# Altium footprint library pedals-tubes.PCBLIB: 16 footprints
Each footprint in its own frame and in the unit in brackets; x right, y up, seen from the top. Pads: shape width x height; smd on the part's side, far side on the other; paste and mask are expansions set on the pad; w line width, h text height; cw(c..) or ccw(c..) is an arc to the next point about the centre after c.
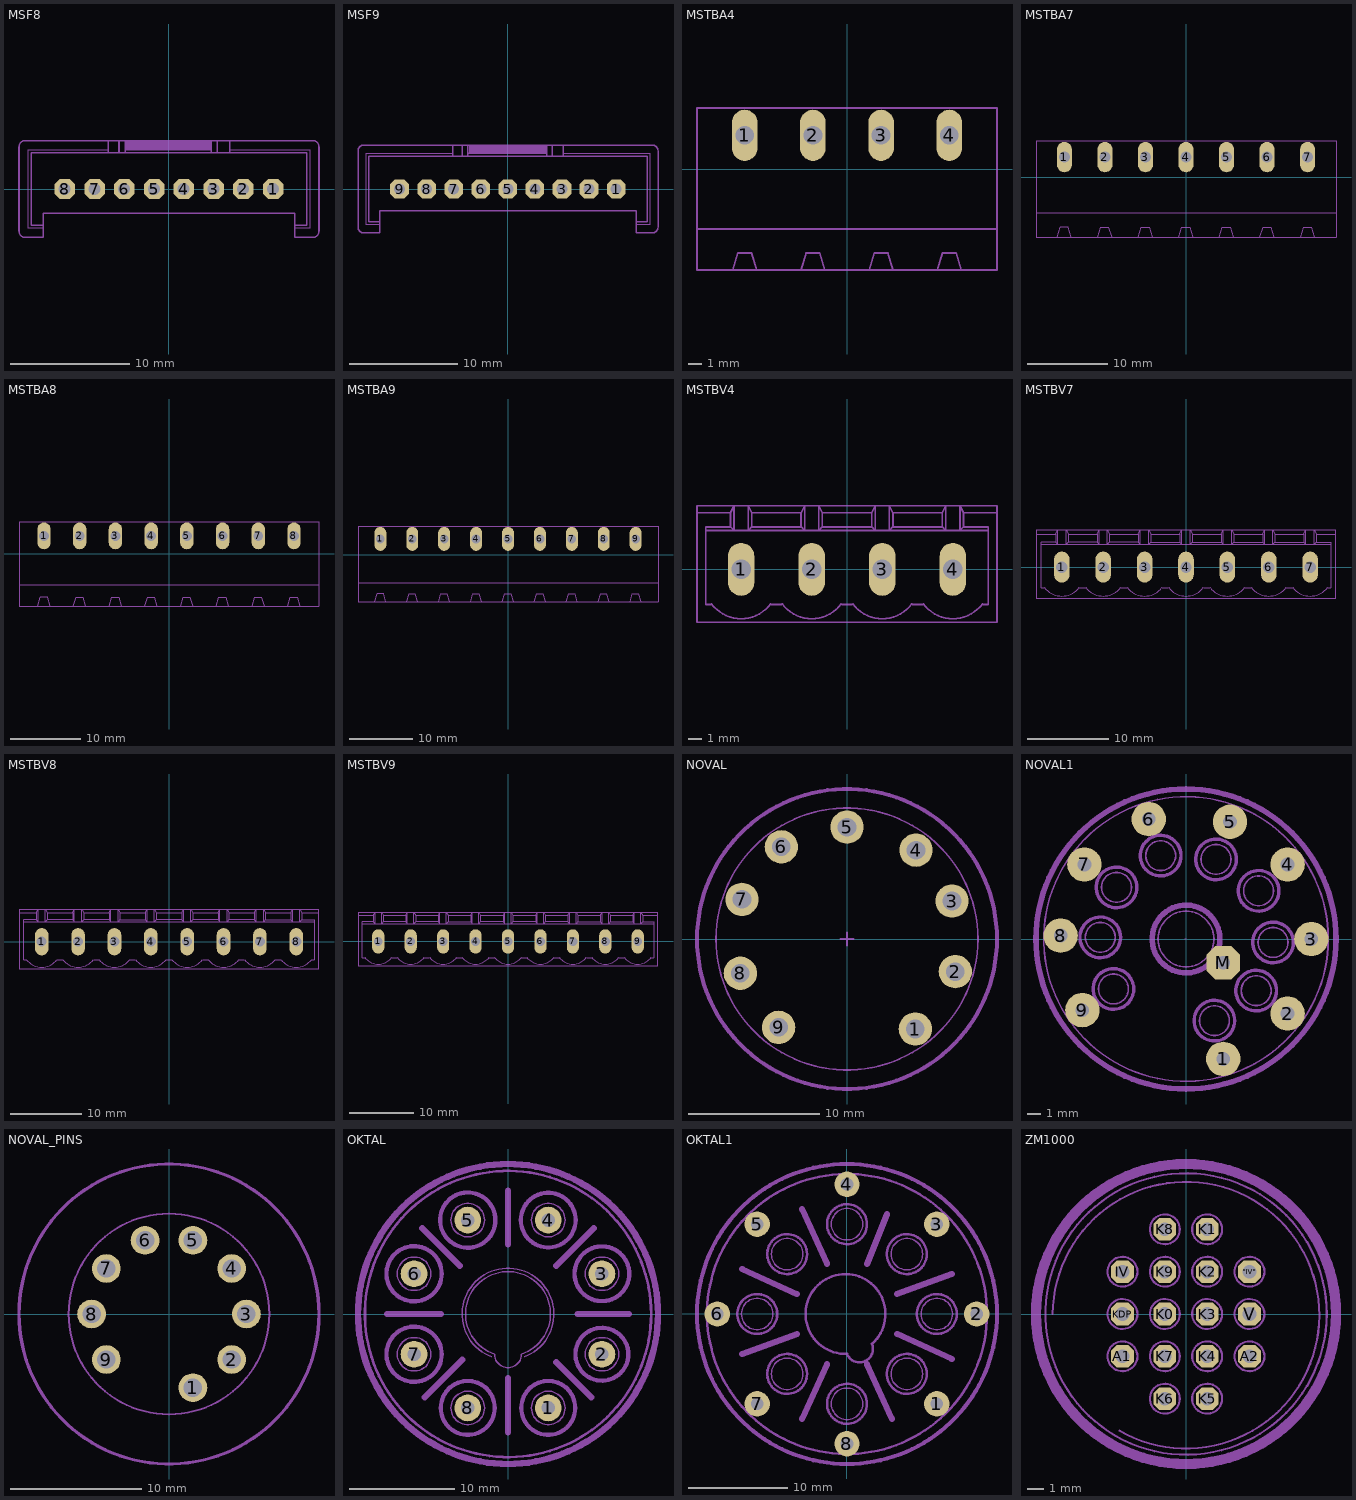
[diagram p0: the footprints below, top view; thin cyan lines are the x and y axes]

## MSF8 [mil]
pads (8):
  oct 67.78x67.78 hole 40: 1(345,0) 2(246,0) 3(148,0) 4(49,0) 5(-49,0) 6(-148,0) 7(-246,0) 8(-345,0)
Mechanical 2:
  rectangle: -142,130 138,160
  lines w0: -416,-130 -466,-130 -466,130 -200,130 ; 201,130 467,130 467,-130 417,-130
  lines w5: -416,-120 -456,-120 -456,120 -200,120 ; -416,-120 -416,-130 -416,-160 -476,-160 cw(c-476,-140) -496,-140 -496,140 cw(c-476,140) -476,160 -200,160 ; -416,-120 -416,-80 417,-80 417,-120 ; -200,120 -165,120 ; -200,120 -200,130 -200,160 ; -200,160 -165,160 ; -165,120 -165,160 ; -165,120 -145,120 ; -165,160 -145,160 ; -145,120 -145,130 ; -145,120 141,120 ; -145,130 -145,160 ; -145,130 141,130 ; -145,160 141,160 ; 141,120 161,120 ; 141,120 141,130 ; 141,130 141,160 ; 141,160 161,160 ; 161,120 161,160 ; 161,120 201,120 ; 161,160 201,160 ; 201,120 457,120 457,-120 417,-120 ; 201,120 201,130 201,160 ; 201,160 477,160 cw(c477,140) 497,140 497,-140 cw(c477,-140) 477,-160 417,-160 417,-130 417,-120
Mechanical 18:
  lines w5: -360,-15 -330,-15 ; -360,-15 -360,15 ; -360,-15 -330,15 ; -360,15 -330,15 ; -360,15 -330,-15 ; -330,-15 -330,15 ; -261,-15 -261,15 ; -261,-15 -231,15 ; -261,-15 -231,-15 ; -261,15 -231,15 ; -261,15 -231,-15 ; -231,-15 -231,15 ; -163,-15 -133,-15 ; -163,-15 -163,15 ; -163,-15 -133,15 ; -163,15 -133,15 ; -163,15 -133,-15 ; -133,-15 -133,15 ; -64,-15 -34,-15 ; -64,-15 -64,15 ; -64,-15 -34,15 ; -64,15 -34,15 ; -64,15 -34,-15 ; -34,-15 -34,15 ; 34,-15 64,15 ; 34,-15 34,15 ; 34,-15 64,-15 ; 34,15 64,-15 ; 34,15 64,15 ; 64,-15 64,15 ; 133,-15 163,15 ; 133,-15 163,-15 ; 133,-15 133,15 ; 133,15 163,-15 ; 133,15 163,15 ; 163,-15 163,15 ; 231,-15 231,15 ; 231,-15 261,-15 ; 231,-15 261,15 ; 231,15 261,15 ; 231,15 261,-15 ; 261,-15 261,15 ; 330,-15 360,-15 ; 330,-15 330,15 ; 330,-15 360,15 ; 330,15 360,15 ; 330,15 360,-15 ; 360,-15 360,15

## MSF9 [mil]
pads (9):
  oct 67.78x67.78 hole 40: 1(394,0) 2(295,0) 3(197,0) 4(98,0) 5(0,0) 6(-98,0) 7(-197,0) 8(-295,0) 9(-394,0)
Mechanical 2:
  rectangle: -142,130 138,160
  lines w0: -465,-130 -515,-130 -515,130 -200,130 ; 201,130 516,130 516,-130 466,-130
  lines w5: -465,-120 -505,-120 -505,120 -200,120 ; -465,-120 -465,-130 -465,-160 -525,-160 cw(c-525,-140) -545,-140 -545,140 cw(c-525,140) -525,160 -200,160 ; -465,-120 -465,-80 466,-80 466,-120 ; -200,120 -165,120 ; -200,120 -200,130 -200,160 ; -200,160 -165,160 ; -165,120 -165,160 ; -165,120 -145,120 ; -165,160 -145,160 ; -145,120 -145,130 ; -145,120 141,120 ; -145,130 -145,160 ; -145,130 141,130 ; -145,160 141,160 ; 141,120 161,120 ; 141,120 141,130 ; 141,130 141,160 ; 141,160 161,160 ; 161,120 161,160 ; 161,120 201,120 ; 161,160 201,160 ; 201,120 506,120 506,-120 466,-120 ; 201,120 201,130 201,160 ; 201,160 526,160 cw(c526,140) 546,140 546,-140 cw(c526,-140) 526,-160 466,-160 466,-130 466,-120
Mechanical 18:
  lines w5: -409,-15 -379,-15 ; -409,-15 -409,15 ; -409,-15 -379,15 ; -409,15 -379,15 ; -409,15 -379,-15 ; -379,-15 -379,15 ; -310,-15 -310,15 ; -310,-15 -280,15 ; -310,-15 -280,-15 ; -310,15 -280,15 ; -310,15 -280,-15 ; -280,-15 -280,15 ; -212,-15 -182,-15 ; -212,-15 -212,15 ; -212,-15 -182,15 ; -212,15 -182,15 ; -212,15 -182,-15 ; -182,-15 -182,15 ; -113,-15 -83,-15 ; -113,-15 -113,15 ; -113,-15 -83,15 ; -113,15 -83,15 ; -113,15 -83,-15 ; -83,-15 -83,15 ; -15,-15 15,15 ; -15,-15 -15,15 ; -15,-15 15,-15 ; -15,15 15,-15 ; -15,15 15,15 ; 15,-15 15,15 ; 83,-15 113,15 ; 83,-15 113,-15 ; 83,-15 83,15 ; 83,15 113,-15 ; 83,15 113,15 ; 113,-15 113,15 ; 182,-15 182,15 ; 182,-15 212,-15 ; 182,-15 212,15 ; 182,15 212,15 ; 182,15 212,-15 ; 212,-15 212,15 ; 280,-15 310,-15 ; 280,-15 280,15 ; 280,-15 310,15 ; 280,15 310,15 ; 280,15 310,-15 ; 310,-15 310,15 ; 379,-15 379,15 ; 379,-15 409,15 ; 379,-15 409,-15 ; 379,15 409,15 ; 379,15 409,-15 ; 409,-15 409,15

## MSTBA4 [mil]
pads (4):
  oval 75x150 hole 55: 1(-300,100) 2(-100,100) 3(100,100) 4(300,100)
Mechanical 2:
  lines w5: -325,180 -440,180 -440,-175 ; -275,180 -125,180 ; -75,180 75,180 ; 125,180 275,180 ; 325,180 440,180 440,-175 ; -440,-175 440,-175 ; -440,-175 -440,-295 -335,-295 ; -335,-295 -320,-245 -280,-245 -265,-295 ; -335,-295 -265,-295 ; -265,-295 -135,-295 ; -135,-295 -120,-245 -80,-245 -65,-295 ; -135,-295 -65,-295 ; -65,-295 65,-295 ; 65,-295 135,-295 ; 65,-295 80,-245 120,-245 135,-295 ; 135,-295 265,-295 ; 265,-295 335,-295 ; 265,-295 280,-245 320,-245 335,-295 ; 335,-295 440,-295 440,-175
Mechanical 18:
  lines w5: -325,180 -275,180 ; -125,180 -75,180 ; 75,180 125,180 ; 275,180 325,180

## MSTBA7 [mil]
pads (7):
  oval 75x150 hole 55: 1(-600,100) 2(-400,100) 3(-200,100) 4(0,100) 5(200,100) 6(400,100) 7(600,100)
Mechanical 2:
  lines w5: -625,180 -740,180 -740,-175 ; -575,180 -425,180 ; -375,180 -225,180 ; -175,180 -25,180 ; 25,180 175,180 ; 225,180 375,180 ; 425,180 575,180 ; 625,180 740,180 740,-175 ; -740,-175 740,-175 ; -740,-175 -740,-295 -635,-295 ; -635,-295 -620,-245 -580,-245 -565,-295 ; -635,-295 -565,-295 ; -565,-295 -435,-295 ; -435,-295 -420,-245 -380,-245 -365,-295 ; -435,-295 -365,-295 ; -365,-295 -235,-295 ; -235,-295 -165,-295 ; -235,-295 -220,-245 -180,-245 -165,-295 ; -165,-295 -35,-295 ; -35,-295 35,-295 ; -35,-295 -20,-245 20,-245 35,-295 ; 35,-295 165,-295 ; 165,-295 235,-295 ; 165,-295 180,-245 220,-245 235,-295 ; 235,-295 365,-295 ; 365,-295 435,-295 ; 365,-295 380,-245 420,-245 435,-295 ; 435,-295 565,-295 ; 565,-295 635,-295 ; 565,-295 580,-245 620,-245 635,-295 ; 635,-295 740,-295 740,-175
Mechanical 18:
  lines w5: -625,180 -575,180 ; -425,180 -375,180 ; -225,180 -175,180 ; -25,180 25,180 ; 175,180 225,180 ; 375,180 425,180 ; 575,180 625,180

## MSTBA8 [mil]
pads (8):
  oval 75x150 hole 55: 1(-700,100) 2(-500,100) 3(-300,100) 4(-100,100) 5(100,100) 6(300,100) 7(500,100) 8(700,100)
Mechanical 2:
  lines w5: -725,180 -840,180 -840,-175 ; -675,180 -525,180 ; -475,180 -325,180 ; -275,180 -125,180 ; -75,180 75,180 ; 125,180 275,180 ; 325,180 475,180 ; 525,180 675,180 ; 725,180 840,180 840,-175 ; -840,-175 840,-175 ; -840,-175 -840,-295 -735,-295 ; -735,-295 -720,-245 -680,-245 -665,-295 ; -735,-295 -665,-295 ; -665,-295 -535,-295 ; -535,-295 -520,-245 -480,-245 -465,-295 ; -535,-295 -465,-295 ; -465,-295 -335,-295 ; -335,-295 -265,-295 ; -335,-295 -320,-245 -280,-245 -265,-295 ; -265,-295 -135,-295 ; -135,-295 -65,-295 ; -135,-295 -120,-245 -80,-245 -65,-295 ; -65,-295 65,-295 ; 65,-295 135,-295 ; 65,-295 80,-245 120,-245 135,-295 ; 135,-295 265,-295 ; 265,-295 335,-295 ; 265,-295 280,-245 320,-245 335,-295 ; 335,-295 465,-295 ; 465,-295 535,-295 ; 465,-295 480,-245 520,-245 535,-295 ; 535,-295 665,-295 ; 665,-295 735,-295 ; 665,-295 680,-245 720,-245 735,-295 ; 735,-295 840,-295 840,-175
Mechanical 18:
  lines w5: -725,180 -675,180 ; -525,180 -475,180 ; -325,180 -275,180 ; -125,180 -75,180 ; 75,180 125,180 ; 275,180 325,180 ; 475,180 525,180 ; 675,180 725,180

## MSTBA9 [mil]
pads (9):
  oval 75x150 hole 55: 1(-800,100) 2(-600,100) 3(-400,100) 4(-200,100) 5(0,100) 6(200,100) 7(400,100) 8(600,100) 9(800,100)
Mechanical 2:
  lines w5: -825,180 -940,180 -940,-175 ; -775,180 -625,180 ; -575,180 -425,180 ; -375,180 -225,180 ; -175,180 -25,180 ; 25,180 175,180 ; 225,180 375,180 ; 425,180 575,180 ; 625,180 775,180 ; 825,180 940,180 940,-175 ; -940,-175 940,-175 ; -940,-175 -940,-295 -835,-295 ; -835,-295 -820,-245 -780,-245 -765,-295 ; -835,-295 -765,-295 ; -765,-295 -635,-295 ; -635,-295 -620,-245 -580,-245 -565,-295 ; -635,-295 -565,-295 ; -565,-295 -435,-295 ; -435,-295 -365,-295 ; -435,-295 -420,-245 -380,-245 -365,-295 ; -365,-295 -235,-295 ; -235,-295 -165,-295 ; -235,-295 -220,-245 -180,-245 -165,-295 ; -165,-295 -35,-295 ; -35,-295 35,-295 ; -35,-295 -20,-245 20,-245 35,-295 ; 35,-295 165,-295 ; 165,-295 235,-295 ; 165,-295 180,-245 220,-245 235,-295 ; 235,-295 365,-295 ; 365,-295 435,-295 ; 365,-295 380,-245 420,-245 435,-295 ; 435,-295 565,-295 ; 565,-295 635,-295 ; 565,-295 580,-245 620,-245 635,-295 ; 635,-295 765,-295 ; 765,-295 835,-295 ; 765,-295 780,-245 820,-245 835,-295 ; 835,-295 940,-295 940,-175
Mechanical 18:
  lines w5: -825,180 -775,180 ; -625,180 -575,180 ; -425,180 -375,180 ; -225,180 -175,180 ; -25,180 25,180 ; 175,180 225,180 ; 375,180 425,180 ; 575,180 625,180 ; 775,180 825,180

## MSTBV4 [mil]
pads (4):
  oval 75x150 hole 55: 1(-300,0) 2(-100,0) 3(100,0) 4(300,0)
Mechanical 2:
  lines w5: -384,-98 ccw(c-300,-35) -300,-140 ccw(c-300,-35) -216,-98 ; -383,-100 -400,-100 -400,110 ; -215,-100 -185,-100 ; -184,-98 ccw(c-100,-35) -100,-140 ccw(c-100,-35) -16,-98 ; -15,-100 15,-100 ; 16,-98 ccw(c100,-35) 100,-140 ccw(c100,-35) 184,-98 ; 185,-100 215,-100 ; 216,-98 ccw(c300,-35) 300,-140 ccw(c300,-35) 384,-98 ; 383,-100 400,-100 400,110 ; -425,160 -425,180 -320,180 ; -425,160 -425,-150 425,-150 425,160 ; -425,160 -330,160 ; -400,110 -400,120 -330,120 ; -400,110 -320,110 ; -330,120 -330,160 ; -330,120 -320,110 ; -330,160 -320,180 ; -320,110 -280,110 ; -320,110 -320,180 ; -320,180 -280,180 ; -280,110 -120,110 ; -280,110 -280,180 ; -280,110 -270,120 ; -280,180 -120,180 ; -280,180 -270,160 ; -270,120 -130,120 ; -270,120 -270,160 ; -270,160 -130,160 ; -130,120 -130,160 ; -130,120 -120,110 ; -130,160 -120,180 ; -120,110 -80,110 ; -120,110 -120,180 ; -120,180 -80,180 ; -80,110 80,110 ; -80,110 -80,180 ; -80,110 -70,120 ; -80,180 80,180 ; -80,180 -70,160 ; -70,120 70,120 ; -70,120 -70,160 ; -70,160 70,160 ; 70,120 70,160 ; 70,120 80,110 ; 70,160 80,180 ; 80,110 120,110 ; 80,110 80,180 ; 80,180 120,180 ; 120,110 280,110 ; 120,110 120,180 ; 120,110 130,120 ; 120,180 280,180 ; 120,180 130,160 ; 130,120 130,160 ; 130,120 270,120 ; 130,160 270,160 ; 270,120 270,160 ; 270,120 280,110 ; 270,160 280,180 ; 280,110 320,110 ; 280,110 280,180 ; 280,180 320,180 ; 320,110 400,110 ; 320,110 320,180 ; 320,110 330,120 ; 320,180 425,180 425,160 ; 320,180 330,160 ; 330,120 400,120 400,110 ; 330,120 330,160 ; 330,160 425,160
Mechanical 18:
  lines w5: -325,-25 -325,25 ; -325,-25 -275,-25 ; -325,-25 -275,25 ; -325,25 -275,25 ; -325,25 -275,-25 ; -275,-25 -275,25 ; -125,-25 -75,-25 ; -125,-25 -125,25 ; -125,-25 -75,25 ; -125,25 -75,25 ; -125,25 -75,-25 ; -75,-25 -75,25 ; 75,-25 75,25 ; 75,-25 125,-25 ; 75,-25 125,25 ; 75,25 125,25 ; 75,25 125,-25 ; 125,-25 125,25 ; 275,-25 275,25 ; 275,-25 325,25 ; 275,-25 325,-25 ; 275,25 325,25 ; 275,25 325,-25 ; 325,-25 325,25

## MSTBV7 [mil]
pads (7):
  oval 75x150 hole 55: 1(-600,0) 2(-400,0) 3(-200,0) 4(0,0) 5(200,0) 6(400,0) 7(600,0)
Mechanical 2:
  lines w5: -684,-98 ccw(c-600,-35) -600,-140 ccw(c-600,-35) -516,-98 ; -683,-100 -700,-100 -700,110 ; -515,-100 -485,-100 ; -484,-98 ccw(c-400,-35) -400,-140 ccw(c-400,-35) -316,-98 ; -315,-100 -285,-100 ; -284,-98 ccw(c-200,-35) -200,-140 ccw(c-200,-35) -116,-98 ; -115,-100 -85,-100 ; -84,-98 ccw(c0,-35) 0,-140 ccw(c0,-35) 84,-98 ; 85,-100 115,-100 ; 116,-98 ccw(c200,-35) 200,-140 ccw(c200,-35) 284,-98 ; 285,-100 315,-100 ; 316,-98 ccw(c400,-35) 400,-140 ccw(c400,-35) 484,-98 ; 485,-100 515,-100 ; 516,-98 ccw(c600,-35) 600,-140 ccw(c600,-35) 684,-98 ; 683,-100 700,-100 700,110 ; -725,160 -725,180 -620,180 ; -725,160 -725,-150 725,-150 725,160 ; -725,160 -630,160 ; -700,110 -700,120 -630,120 ; -700,110 -620,110 ; -630,120 -630,160 ; -630,120 -620,110 ; -630,160 -620,180 ; -620,110 -580,110 ; -620,110 -620,180 ; -620,180 -580,180 ; -580,110 -420,110 ; -580,110 -580,180 ; -580,110 -570,120 ; -580,180 -420,180 ; -580,180 -570,160 ; -570,120 -430,120 ; -570,120 -570,160 ; -570,160 -430,160 ; -430,120 -430,160 ; -430,120 -420,110 ; -430,160 -420,180 ; -420,110 -380,110 ; -420,110 -420,180 ; -420,180 -380,180 ; -380,110 -220,110 ; -380,110 -380,180 ; -380,110 -370,120 ; -380,180 -220,180 ; -380,180 -370,160 ; -370,120 -230,120 ; -370,120 -370,160 ; -370,160 -230,160 ; -230,120 -230,160 ; -230,120 -220,110 ; -230,160 -220,180 ; -220,110 -180,110 ; -220,110 -220,180 ; -220,180 -180,180 ; -180,110 -20,110 ; -180,110 -180,180 ; -180,110 -170,120 ; -180,180 -20,180 ; -180,180 -170,160 ; -170,120 -170,160 ; -170,120 -30,120 ; -170,160 -30,160 ; -30,120 -30,160 ; -30,120 -20,110 ; -30,160 -20,180 ; -20,110 20,110 ; -20,110 -20,180 ; -20,180 20,180 ; 20,110 180,110 ; 20,110 20,180 ; 20,110 30,120 ; 20,180 180,180 ; 20,180 30,160 ; 30,120 170,120 ; 30,120 30,160 ; 30,160 170,160 ; 170,120 170,160 ; 170,120 180,110 ; 170,160 180,180 ; 180,110 220,110 ; 180,110 180,180 ; 180,180 220,180 ; 220,110 380,110 ; 220,110 220,180 ; 220,110 230,120 ; 220,180 380,180 ; 220,180 230,160 ; 230,120 370,120 ; 230,120 230,160 ; 230,160 370,160 ; 370,120 370,160 ; 370,120 380,110 ; 370,160 380,180 ; 380,110 420,110 ; 380,110 380,180 ; 380,180 420,180 ; 420,110 580,110 ; 420,110 420,180 ; 420,110 430,120 ; 420,180 580,180 ; 420,180 430,160 ; 430,120 570,120 ; 430,120 430,160 ; 430,160 570,160 ; 570,120 570,160 ; 570,120 580,110 ; 570,160 580,180 ; 580,110 620,110 ; 580,110 580,180 ; 580,180 620,180 ; 620,110 700,110 ; 620,110 620,180 ; 620,110 630,120 ; 620,180 725,180 725,160 ; 620,180 630,160 ; 630,120 700,120 700,110 ; 630,120 630,160 ; 630,160 725,160
Mechanical 18:
  lines w5: -625,-25 -625,25 ; -625,-25 -575,-25 ; -625,-25 -575,25 ; -625,25 -575,25 ; -625,25 -575,-25 ; -575,-25 -575,25 ; -425,-25 -375,-25 ; -425,-25 -425,25 ; -425,-25 -375,25 ; -425,25 -375,25 ; -425,25 -375,-25 ; -375,-25 -375,25 ; -225,-25 -225,25 ; -225,-25 -175,-25 ; -225,-25 -175,25 ; -225,25 -175,25 ; -225,25 -175,-25 ; -175,-25 -175,25 ; -25,-25 -25,25 ; -25,-25 25,25 ; -25,-25 25,-25 ; -25,25 25,25 ; -25,25 25,-25 ; 25,-25 25,25 ; 175,-25 225,-25 ; 175,-25 175,25 ; 175,-25 225,25 ; 175,25 225,25 ; 175,25 225,-25 ; 225,-25 225,25 ; 375,-25 375,25 ; 375,-25 425,-25 ; 375,-25 425,25 ; 375,25 425,25 ; 375,25 425,-25 ; 425,-25 425,25 ; 575,-25 575,25 ; 575,-25 625,-25 ; 575,-25 625,25 ; 575,25 625,25 ; 575,25 625,-25 ; 625,-25 625,25

## MSTBV8 [mil]
pads (8):
  oval 75x150 hole 55: 1(-700,0) 2(-500,0) 3(-300,0) 4(-100,0) 5(100,0) 6(300,0) 7(500,0) 8(700,0)
Mechanical 2:
  lines w5: -784,-98 ccw(c-700,-35) -700,-140 ccw(c-700,-35) -616,-98 ; -783,-100 -800,-100 -800,110 ; -615,-100 -585,-100 ; -584,-98 ccw(c-500,-35) -500,-140 ccw(c-500,-35) -416,-98 ; -415,-100 -385,-100 ; -384,-98 ccw(c-300,-35) -300,-140 ccw(c-300,-35) -216,-98 ; -215,-100 -185,-100 ; -184,-98 ccw(c-100,-35) -100,-140 ccw(c-100,-35) -16,-98 ; -17,-100 17,-100 ; 16,-98 ccw(c100,-35) 100,-140 ccw(c100,-35) 184,-98 ; 185,-100 215,-100 ; 216,-98 ccw(c300,-35) 300,-140 ccw(c300,-35) 384,-98 ; 385,-100 415,-100 ; 416,-98 ccw(c500,-35) 500,-140 ccw(c500,-35) 584,-98 ; 585,-100 615,-100 ; 616,-98 ccw(c700,-35) 700,-140 ccw(c700,-35) 784,-98 ; 783,-100 800,-100 800,110 ; -825,160 -825,180 -720,180 ; -825,160 -825,-150 825,-150 825,160 ; -825,160 -730,160 ; -800,110 -800,120 -730,120 ; -800,110 -720,110 ; -730,120 -730,160 ; -730,120 -720,110 ; -730,160 -720,180 ; -720,110 -680,110 ; -720,110 -720,180 ; -720,180 -680,180 ; -680,110 -520,110 ; -680,110 -680,180 ; -680,110 -670,120 ; -680,180 -520,180 ; -680,180 -670,160 ; -670,120 -530,120 ; -670,120 -670,160 ; -670,160 -530,160 ; -530,120 -530,160 ; -530,120 -520,110 ; -530,160 -520,180 ; -520,110 -480,110 ; -520,110 -520,180 ; -520,180 -480,180 ; -480,110 -320,110 ; -480,110 -480,180 ; -480,110 -470,120 ; -480,180 -320,180 ; -480,180 -470,160 ; -470,120 -330,120 ; -470,120 -470,160 ; -470,160 -330,160 ; -330,120 -330,160 ; -330,120 -320,110 ; -330,160 -320,180 ; -320,110 -280,110 ; -320,110 -320,180 ; -320,180 -280,180 ; -280,110 -120,110 ; -280,110 -280,180 ; -280,110 -270,120 ; -280,180 -120,180 ; -280,180 -270,160 ; -270,120 -270,160 ; -270,120 -130,120 ; -270,160 -130,160 ; -130,120 -130,160 ; -130,120 -120,110 ; -130,160 -120,180 ; -120,110 -80,110 ; -120,110 -120,180 ; -120,180 -80,180 ; -80,110 -80,180 ; -80,110 -70,120 ; -80,110 80,110 ; -80,180 -70,160 ; -80,180 80,180 ; -70,120 -70,160 ; -70,120 70,120 ; -70,160 70,160 ; 70,120 70,160 ; 70,120 80,110 ; 70,160 80,180 ; 80,110 120,110 ; 80,110 80,180 ; 80,180 120,180 ; 120,110 280,110 ; 120,110 120,180 ; 120,110 130,120 ; 120,180 280,180 ; 120,180 130,160 ; 130,120 270,120 ; 130,120 130,160 ; 130,160 270,160 ; 270,120 270,160 ; 270,120 280,110 ; 270,160 280,180 ; 280,110 320,110 ; 280,110 280,180 ; 280,180 320,180 ; 320,110 480,110 ; 320,110 320,180 ; 320,110 330,120 ; 320,180 480,180 ; 320,180 330,160 ; 330,120 470,120 ; 330,120 330,160 ; 330,160 470,160 ; 470,120 470,160 ; 470,120 480,110 ; 470,160 480,180 ; 480,110 520,110 ; 480,110 480,180 ; 480,180 520,180 ; 520,110 680,110 ; 520,110 520,180 ; 520,110 530,120 ; 520,180 680,180 ; 520,180 530,160 ; 530,120 530,160 ; 530,120 670,120 ; 530,160 670,160 ; 670,120 670,160 ; 670,120 680,110 ; 670,160 680,180 ; 680,110 720,110 ; 680,110 680,180 ; 680,180 720,180 ; 720,110 800,110 ; 720,110 720,180 ; 720,110 730,120 ; 720,180 825,180 825,160 ; 720,180 730,160 ; 730,120 800,120 800,110 ; 730,120 730,160 ; 730,160 825,160
Mechanical 18:
  lines w5: -725,-25 -725,25 ; -725,-25 -675,-25 ; -725,-25 -675,25 ; -725,25 -675,25 ; -725,25 -675,-25 ; -675,-25 -675,25 ; -525,-25 -475,-25 ; -525,-25 -525,25 ; -525,-25 -475,25 ; -525,25 -475,25 ; -525,25 -475,-25 ; -475,-25 -475,25 ; -325,-25 -325,25 ; -325,-25 -275,-25 ; -325,-25 -275,25 ; -325,25 -275,25 ; -325,25 -275,-25 ; -275,-25 -275,25 ; -125,-25 -125,25 ; -125,-25 -75,25 ; -125,-25 -75,-25 ; -125,25 -75,25 ; -125,25 -75,-25 ; -75,-25 -75,25 ; 75,-25 75,25 ; 75,-25 125,-25 ; 75,-25 125,25 ; 75,25 125,25 ; 75,25 125,-25 ; 125,-25 125,25 ; 275,-25 325,-25 ; 275,-25 275,25 ; 275,-25 325,25 ; 275,25 325,25 ; 275,25 325,-25 ; 325,-25 325,25 ; 475,-25 475,25 ; 475,-25 525,-25 ; 475,-25 525,25 ; 475,25 525,25 ; 475,25 525,-25 ; 525,-25 525,25 ; 675,-25 675,25 ; 675,-25 725,25 ; 675,-25 725,-25 ; 675,25 725,25 ; 675,25 725,-25 ; 725,-25 725,25

## MSTBV9 [mil]
pads (9):
  oval 75x150 hole 55: 1(-800,0) 2(-600,0) 3(-400,0) 4(-200,0) 5(0,0) 6(200,0) 7(400,0) 8(600,0) 9(800,0)
Mechanical 2:
  drawing of 167 lines, arcs and shapes, not listed
Mechanical 18:
  lines w5: -825,-25 -825,25 ; -825,-25 -775,-25 ; -825,-25 -775,25 ; -825,25 -775,25 ; -825,25 -775,-25 ; -775,-25 -775,25 ; -625,-25 -575,-25 ; -625,-25 -625,25 ; -625,-25 -575,25 ; -625,25 -575,25 ; -625,25 -575,-25 ; -575,-25 -575,25 ; -425,-25 -425,25 ; -425,-25 -375,-25 ; -425,-25 -375,25 ; -425,25 -375,25 ; -425,25 -375,-25 ; -375,-25 -375,25 ; -225,-25 -225,25 ; -225,-25 -175,25 ; -225,-25 -175,-25 ; -225,25 -175,25 ; -225,25 -175,-25 ; -175,-25 -175,25 ; -25,-25 -25,25 ; -25,-25 25,-25 ; -25,-25 25,25 ; -25,25 25,25 ; -25,25 25,-25 ; 25,-25 25,25 ; 175,-25 225,-25 ; 175,-25 175,25 ; 175,-25 225,25 ; 175,25 225,25 ; 175,25 225,-25 ; 225,-25 225,25 ; 375,-25 375,25 ; 375,-25 425,-25 ; 375,-25 425,25 ; 375,25 425,25 ; 375,25 425,-25 ; 425,-25 425,25 ; 575,-25 575,25 ; 575,-25 625,25 ; 575,-25 625,-25 ; 575,25 625,25 ; 575,25 625,-25 ; 625,-25 625,25 ; 775,-25 775,25 ; 775,-25 825,-25 ; 775,-25 825,25 ; 775,25 825,25 ; 775,25 825,-25 ; 825,-25 825,25

## NOVAL [mil]
pads (9):
  round 100 hole 56: 1(205,-270) 2(324.96,-97.8) 3(315.12,113.9) 4(207.01,266.54) 5(0,335.59) 6(-197.01,276.54) 7(-315.12,118.9) 8(-319.96,-102.8) 9(-205,-265)
Mechanical 2:
  circle w12: c0,0 r450
  circle w5: c0,0 r393
Mechanical 3:
  circle w5: c0,0 r447.21
  lines w5: -20,0 20,0 ; 0,-20 0,20

## NOVAL1 [mil]
pads (10):
  round 100 hole 40: 1(108.27,-348.43) 2(295.28,-216.54) 3(364.17,0) 4(295.28,216.54) 5(127.95,340.55) 6(-108.27,348.43) 7(-295.28,216.54) 8(-364.17,9.84) 9(-301.18,-206.69)
  oct 96.82x96.82 hole 40: M(108.27,-68.9)
Mechanical 2:
  circle w16: c0,0 r435.85
  circle w16: c0,0 r98.43
  circle w10: c-201.97,150.04 r59.06
  circle w10: c-249.06,4.84 r59.06
  circle w10: c-210.91,-145.2 r59.06
  circle w10: c82.52,-237.24 r59.06
  circle w10: c203.94,-150.04 r59.06
  circle w10: c252.99,-10 r59.06
  circle w10: c210.91,140.04 r59.06
  circle w10: c87.2,231.34 r59.06
  circle w10: c-73.58,242.24 r59.06
  circle w5: c-249.06,4.84 r43.48
  circle w5: c-201.97,150.04 r43.48
  circle w5: c-73.58,242.24 r43.48
  circle w5: c87.2,231.34 r43.48
  circle w5: c210.91,140.04 r43.48
  circle w5: c252.99,-10 r43.48
  circle w5: c203.94,-150.04 r43.48
  circle w5: c82.52,-237.24 r43.48
  circle w5: c-210.91,-145.2 r43.48
  circle w5: c0,0 r413.4
  circle w5: c0,0 r81.07
  lines w0: -3.94,0 0,0

## NOVAL_PINS [mil]
pads (9):
  round 86 hole 55.12: 1(71.78,-220.91) 2(187.92,-136.53) 3(232.28,0) 4(187.92,136.53) 5(71.78,220.91) 6(-71.78,220.91) 7(-187.92,136.53) 8(-232.28,0) 9(-187.92,-136.53)
Mechanical 2:
  circle w6: c0,0 r301.04
  circle w10: c0,0 r450
Mechanical 3:
  circle w6: c0,0 r301.04
  circle w10: c0,0 r450

## OKTAL [mil]
pads (8):
  round 100 hole 50: 1(150,-350) 2(350,-150) 3(350,150) 4(150,350) 5(-150,350) 6(-350,150) 7(-350,-150) 8(-150,-350)
Mechanical 2:
  circle w10: c0,0 r533.38
  circle w16: c-350,-150 r102.95
  circle w16: c-150,-350 r100.5
  circle w16: c150,-350 r100.5
  circle w16: c350,-150 r98.49
  circle w16: c350,150 r101.98
  circle w16: c150,350 r101.98
  circle w16: c-150,350 r102.95
  circle w16: c-350,150 r102.95
  circle w24: c0,0 r559.02
  lines w5: -60,-160 cw(c0,0) 60,-160 ; -50,-150 ccw(c0,-150) 50,-150 ccw(c0,0) -50,-150
  lines w24: -450,0 -250,0 ; -320,320 -180,180 ; -310,-310 -170,-170 ; 0,-440 0,-240 ; 0,260 0,460 ; 180,-180 310,-310 ; 180,180 320,320 ; 260,0 450,0
Mechanical 6:
  circle w5: c-350,-150 r62.5
  circle w5: c-350,150 r62.5
  circle w5: c-150,350 r62.5
  circle w5: c150,350 r62.5
  circle w5: c350,150 r62.5
  circle w5: c350,-150 r62.5
  circle w5: c150,-350 r62.5
  circle w5: c-150,-350 r62.5

## OKTAL1 [mm]
pads (8):
  round 2.54 hole 1.27: 1(9,-9) 2(13,0) 3(9,9) 4(0,13) 5(-9,9) 6(-13,0) 7(-9,-9) 8(0,-13)
Mechanical 2:
  circle w0.406: c0,0 r15.033
  circle w0.254: c0,0 r14.036
  circle w0.254: c-9,0 r2
  circle w0.254: c9,0 r2
  circle w0.254: c0,-9 r2
  circle w0.254: c0,9 r2
  circle w0.254: c-6,-6 r2
  circle w0.254: c-6,6 r2
  circle w0.254: c6,6 r2
  circle w0.254: c6,-6 r2
  circle w0.127: c-6,6 r1.581
  circle w0.127: c0,9 r1.581
  circle w0.127: c6,6 r1.581
  circle w0.127: c9,0 r1.581
  circle w0.127: c6,-6 r1.581
  circle w0.127: c0,-9 r1.581
  circle w0.127: c-6,-6 r1.581
  circle w0.127: c-9,0 r1.581
  lines w0.254: 0,-4 cw(c-0.15,0) 2.5,-3 cw(c1.25,-3.5) 0,-4
  lines w0.61: -10.5,-4 -5,-2 ; -10.5,4.5 -5,2 ; -4.5,-10.5 -2,-5 ; -4.5,10.5 -2,5 ; 2,-5 4.5,-10.5 ; 2,5 4,10 ; 5,-2 10.5,-4.5 ; 5,2 10.5,4

## ZM1000 [mil]
pads (16):
  oct 53.25x53.25 hole 32: "\"IV\""(150,100) A1(-150,-100) A2(150,-100) IV(-150,100) K0(-50,0) K1(50,200) K2(50,100) K3(50,0) K4(50,-100) K5(50,-200) K6(-50,-200) K7(-50,-100) K8(-50,200) K9(-50,100) KDP(-150,0) V(150,0)
Mechanical 2:
  circle w24: c0,0 r354.33
  circle w5: c-50,200 r35.35
  circle w5: c50,200 r35.35
  circle w5: c150,100 r35.35
  circle w5: c50,100 r35.35
  circle w5: c-50,100 r35.35
  circle w5: c-150,100 r35.35
  circle w5: c-150,0 r35.35
  circle w5: c-150,-100 r35.35
  circle w5: c-50,0 r35.35
  circle w5: c50,0 r35.35
  circle w5: c150,0 r35.35
  circle w5: c50,-100 r35.35
  circle w5: c-50,-100 r35.35
  circle w5: c-50,-200 r35.35
  circle w5: c50,-200 r35.35
  circle w5: c150,-100 r35.35
  circle w5: c0,0 r332.41
  lines w5: -314.96,0 cw(c0,-2.81) -157.48,-275.59